# Altium footprint library SRP5050FA.PcbLib: 1 footprints
Each footprint in its own frame and in the unit in brackets; x right, y up, seen from the top. Pads: shape width x height; smd on the part's side, far side on the other; paste and mask are expansions set on the pad; w line width, h text height; cw(c..) or ccw(c..) is an arc to the next point about the centre after c.
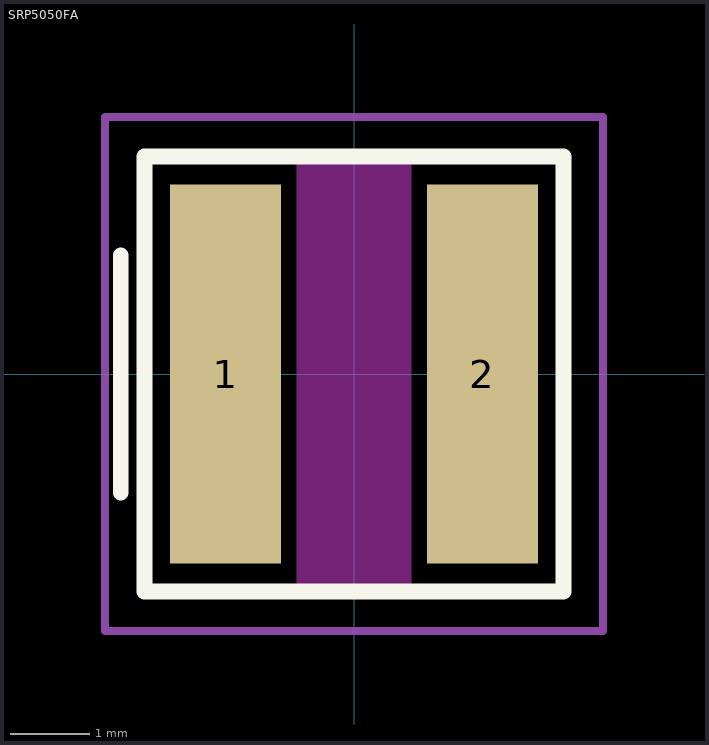
[diagram p0: the footprint, top view; thin cyan lines are the x and y axes]

## SRP5050FA [mm]
pads (2):
  rect 1.4x4.8 smd: 1(-1.625,0) 2(1.625,0)
Top Layer keep-out:
  rectangle: -0.725,-2.75 0.725,2.75
Top Overlay:
  lines w0.2: -2.95,-1.5 -2.95,1.5 ; -2.65,-2.75 2.65,-2.75 2.65,2.75 -2.65,2.75 -2.65,-2.75
Top Courtyard:
  lines w0.1: -3.15,-3.25 -2.65,-3.25 3.15,-3.25 3.15,3.25 -3.15,3.25 -3.15,-3.25
3D body "User Library-Bourns_SRP5050FA_series__Body5_5x5_3__H4_8.step": height 4.8, standoff 0, extent -2.65,-2.75 2.65,2.75